# EAGLE library part ARDUINO_FIO (library air_quality_parts)
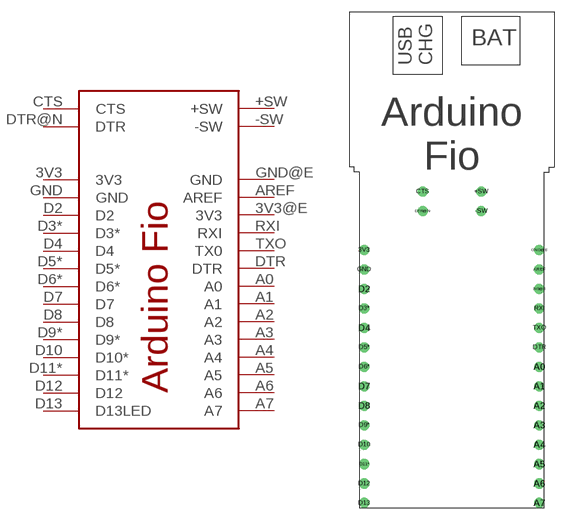
[diagram p1: symbol with the pads of ARDUINO_FIO; footprint ARDUINO_FIO]

Designator prefix -

## ARDUINO_FIO  [ARDUINO_FIO]
3V3  3V3
3V3@E  3V3
+SW  +SW
-SW  -SW
A0  A0
A1  A1
A2  A2
A3  A3
A4  A4
A5  A5
A6  A6
A7  A7
AREF  AREF
CTS  CTS
D2  D2
D3*  D3*
D4  D4
D5*  D5*
D6*  D6*
D7  D7
D8  D8
D9*  D9*
D10  D10*
D11*  D11*
D12  D12
D13  D13LED
DTR  DTR
DTR@N  DTR
GND  GND
GND@E  GND
RXI  RXI
TXO  TX0

## Footprint ARDUINO_FIO (pad centres in mm)
drill 0.8: 3V3 -10.16,2.54; 3V3@E 12.7,-2.54; +SW 5.08,10.16; -SW 5.08,7.62; A0 12.7,-12.7; A1 12.7,-15.24; A2 12.7,-17.78; A3 12.7,-20.32; A4 12.7,-22.86; A5 12.7,-25.4; A6 12.7,-27.94; A7 12.7,-30.48; AREF 12.7,0; CTS -2.54,10.16; D2 -10.16,-2.54; D3* -10.16,-5.08; D4 -10.16,-7.62; D5* -10.16,-10.16; D6* -10.16,-12.7; D7 -10.16,-15.24; D8 -10.16,-17.78; D9* -10.16,-20.32; D10 -10.16,-22.86; D11* -10.16,-25.4; D12 -10.16,-27.94; D13 -10.16,-30.48; DTR 12.7,-10.16; DTR@N -2.54,7.62; GND -10.16,0; GND@E 12.7,2.54; RXI 12.7,-5.08; TXO 12.7,-7.62